# Altium footprint library KBPC.PcbLib: 1 footprints
Each footprint in its own frame and in the unit in brackets; x right, y up, seen from the top. Pads: shape width x height; smd on the part's side, far side on the other; paste and mask are expansions set on the pad; w line width, h text height; cw(c..) or ccw(c..) is an arc to the next point about the centre after c.
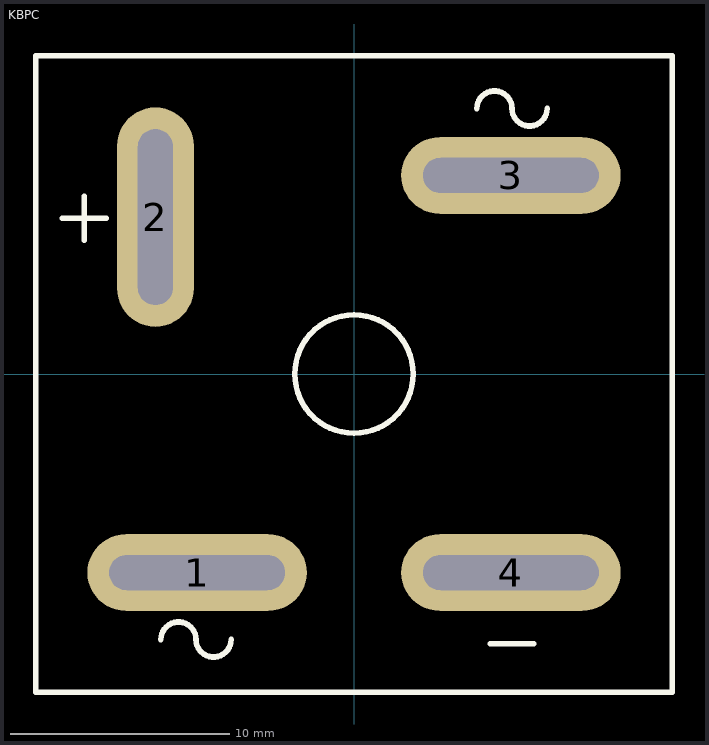
[diagram p0: the footprint, top view; thin cyan lines are the x and y axes]

## KBPC [mm]
pads (4):
  oval 10x3.5 hole 1.6 slot 8 at 0 deg: 1(-7.15,-9.05) 3(7.15,9.05) 4(7.15,-9.05)
  oval 3.5x10 hole 1.6 slot 8 at 90 deg: 2(-9.05,7.15)
Top Overlay:
  circle w0.254: c0,0 r2.7
  lines w0.254: -13.3,7.1 -11.3,7.1 ; -12.3,6.1 -12.3,8.1 ; -8.8,-12.1 cw(c-8,-12.1) -7.2,-12.1 ccw(c-6.4,-12.1) -5.6,-12.1 ; 5.6,12.1 cw(c6.4,12.1) 7.2,12.1 ccw(c8,12.1) 8.8,12.1 ; 6.2,-12.3 8.2,-12.3 ; -14.5,-14.5 14.5,-14.5 14.5,14.5 -14.5,14.5 -14.5,-14.5